# Altium footprint library libreriaPcb.PcbLib: 683 footprints (part 17 of 44)
Each footprint in its own frame and in the unit in brackets; x right, y up, seen from the top. Pads: shape width x height; smd on the part's side, far side on the other; paste and mask are expansions set on the pad; w line width, h text height; cw(c..) or ccw(c..) is an arc to the next point about the centre after c.
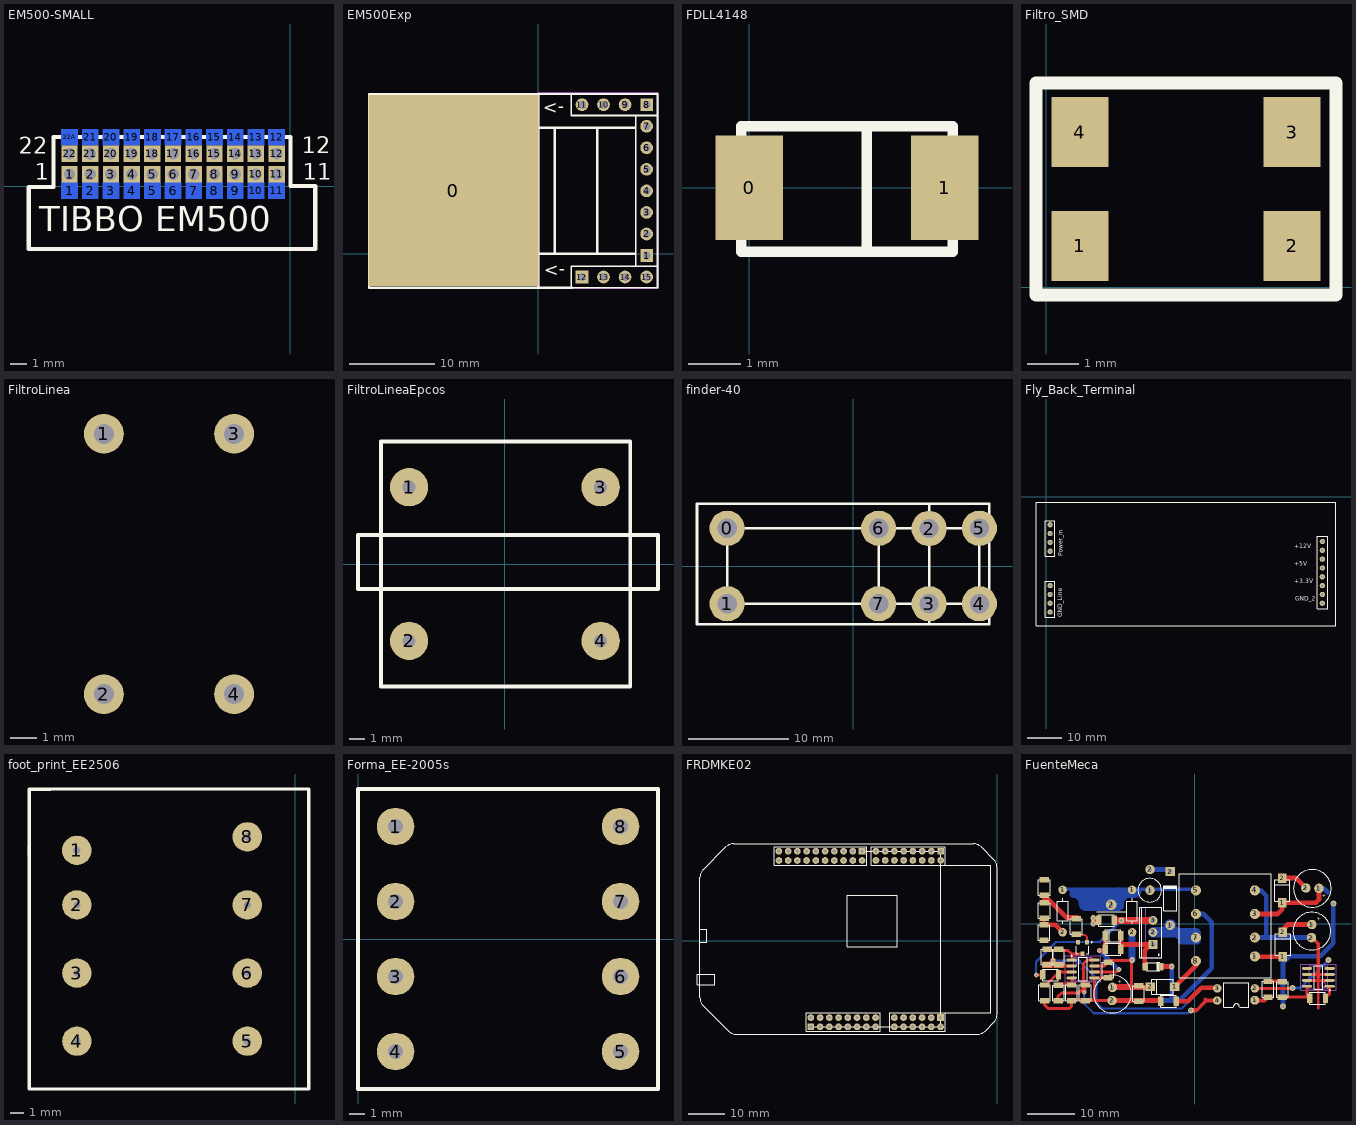
[diagram p16: the footprints below, top view; thin cyan lines are the x and y axes]

## EM500-SMALL [mm]
pads (44):
  rect 1x1 smd far side: 1(-13.55,-0.27) 2(-12.28,-0.27) 3(-11.01,-0.27) 4(-9.74,-0.27) 5(-8.47,-0.27) 6(-7.2,-0.27) 7(-5.93,-0.27) 8(-4.66,-0.27) 9(-3.39,-0.27) 10(-2.12,-0.27) 11(-0.85,-0.27) 12(-0.85,3) 13(-2.12,3) 14(-3.39,3) 15(-4.66,3) 16(-5.93,3) 17(-7.2,3) 18(-8.47,3) 19(-9.74,3) 20(-11.01,3) 21(-12.28,3) 22A(-13.55,3)
  rect 1x1 hole 0.7: 1(-13.55,0.73) 2(-12.28,0.73) 3(-11.01,0.73) 4(-9.74,0.73) 5(-8.47,0.73) 6(-7.2,0.73) 7(-5.93,0.73) 8(-4.66,0.73) 9(-3.39,0.73) 10(-2.12,0.73) 11(-0.85,0.73) 12(-0.85,2) 13(-2.12,2) 14(-3.39,2) 15(-4.66,2) 16(-5.93,2) 17(-7.2,2) 18(-8.47,2) 19(-9.74,2) 20(-11.01,2) 21(-12.28,2) 22(-13.55,2)
Top Overlay:
  lines w0.254: -16.049,-3.842 1.524,-3.842 1.524,0.005 0,0.005 0,3.016 -14.525,3.016 -14.525,-0.045 -16.049,-0.045 -16.049,-3.842
  text "TIBBO EM500" at -15.4,-2.77 h1.52
  text "11" at 0.75,0.405 h1
  text "12" at 0.7,2.03 h1
  text "22" at -16.65,1.98 h1
  text "1" at -15.675,0.405 h1
3D body: height 15, standoff 0, extent -15.975,-3.8 1.475,-0.1
3D body: height 8, standoff 0, extent -1.35,-0.1 -0.35,2.575
3D body: height 8, standoff 0, extent -2.623,-0.1 -1.623,2.575
3D body: height 8, standoff 0, extent -3.895,-0.1 -2.895,2.575
3D body: height 8, standoff 0, extent -5.168,-0.1 -4.168,2.575
3D body: height 8, standoff 0, extent -6.44,-0.1 -5.44,2.575
3D body: height 8, standoff 0, extent -8.985,-0.1 -7.985,2.575
3D body: height 8, standoff 0, extent -7.713,-0.1 -6.713,2.575
3D body: height 8, standoff 0, extent -14.075,-0.1 -13.075,2.575
3D body: height 8, standoff 0, extent -12.803,-0.1 -11.803,2.575
3D body: height 8, standoff 0, extent -11.53,-0.1 -10.53,2.575
3D body: height 8, standoff 0, extent -10.258,-0.1 -9.258,2.575

## EM500Exp [mm]
pads (16):
  rect 20x22.5 all layers, no hole: 0(-10,7.43)
  rect 1.5x1.5 hole 0.9: 1(12.776,-0.216) 8(12.776,17.564) 12(5.156,-2.756)
  round 1.5 hole 0.9: 2(12.776,2.324) 3(12.776,4.864) 4(12.776,7.404) 5(12.776,9.944) 6(12.776,12.484) 7(12.776,15.024) 9(10.236,17.564) 10(7.696,17.564) 11(5.156,17.564) 13(7.696,-2.756) 14(10.236,-2.756) 15(12.776,-2.756)
Top Layer:
  lines w0.254: 5.156,17.564 5.182,17.539 ; 7.696,17.564 8.077,17.183 ; 12.755,7.425 12.776,7.404
Top Overlay:
  lines w0.2: 14.046,-1.486 14.046,-4.026 3.886,-4.026 3.886,-1.486 14.046,-1.486 ; 14.046,-1.486 14.046,16.294 ; 14.046,-1.486 11.506,-1.486 11.506,16.294 14.046,16.294 ; 14.046,16.294 3.886,16.294 3.886,18.834 14.046,18.834 14.046,16.294
  lines w0.254: 0,14.821 0,0 ; 1.941,0 1.941,14.78 ; 3.886,18.834 0.009,18.834 ; 3.941,-4.026 0,-4.026 ; 4.77,14.846 11.481,14.846 ; 4.775,14.846 0.009,14.846 0.009,18.834 ; 6.951,0.014 6.951,14.81 7.011,14.81 ; 11.481,0 4.766,0 0,0 ; 0,-4.026 0,0 ; 0,-4.026 -19.97,-4.026 -19.97,18.834 0.009,18.834
  text "->" at 3.091,17.775 h1.52
  text "->" at 3.191,-1.35 h1.52
Mechanical 1:
  lines w0.254: 0.016,-4.05 0.016,18.925 14.116,18.925 14.116,-4.05 0.016,-4.05

## FDLL4148 [mm] "Chip Resistor; Body 3.2 x 1.6 mm (LxW typ)"
height 2.54
pads (2):
  rect 1.3x2 smd: 0(0,0) 1(3.75,0)
Top Overlay:
  lines w0.2: 2.25,-1.225 2.25,1.125 ; -0.15,-1.225 -0.15,1.175 3.9,1.175 3.9,-1.225 -0.15,-1.225
3D body: height 1, standoff 0, extent 0.025,-0.9 3.525,0.9

## Filtro_SMD [mm]
pads (4):
  rect 1.1x1.35 smd: 1(0.65,0.8) 2(4.75,0.8) 3(4.75,3) 4(0.65,3)
Top Overlay:
  lines w0.254: -0.2,-0.15 5.6,-0.15 5.6,3.95 -0.2,3.95 -0.2,-0.15
3D body: height 2.8, standoff 0.4, extent 0.1,0.1 5.3,3.7
3D body: height 0.4, standoff 0, extent 0.15,2.4 1.15,3.6
3D body: height 0.4, standoff 0, extent 4.25,2.4 5.25,3.6
3D body: height 0.4, standoff 0, extent 0.15,0.2 1.15,1.4
3D body: height 0.4, standoff 0, extent 4.25,0.2 5.25,1.4

## FiltroLinea [mil] "LFV129-102U"
pads (4):
  round 60 hole 30: 1(244.09,480.31) 2(244.09,86.61) 3(440.94,480.31) 4(440.94,86.61)
3D body: height 698.14, standoff 10.52, extent 2.04,-1.97 688.3,568.9
3D body: height 118.11, standoff 0, extent 232.38,74.83 255.91,98.41
3D body: height 118.11, standoff 0, extent 429.23,74.83 452.76,98.41
3D body: height 39.37, standoff 0, extent 429.23,468.53 452.76,492.11
3D body: height 118.11, standoff 0, extent 232.38,468.53 255.91,492.11

## FiltroLineaEpcos [mm]
pads (4):
  round 2.5 hole 0.85: 1(-6.245,5.01) 2(-6.245,-5.01) 3(6.245,5.01) 4(6.245,-5.01)
Top Overlay:
  lines w0.254: -9.575,-1.62 9.985,-1.62 9.985,1.89 -7.675,1.89 -9.575,1.89 -9.575,-1.62 ; -8.065,-7.99 8.175,-7.99 8.175,8 -8.065,8 -8.065,-7.99

## finder-40 [mm]
pads (8):
  round 3.5 hole 1.9: 0(-12.525,3.75) 1(-12.525,-3.75) 2(7.525,3.725) 3(7.525,-3.75) 4(12.525,-3.75) 5(12.525,3.75) 6(2.525,3.75) 7(2.525,-3.75)
Top Overlay:
  lines w0.254: 2.525,-3.75 2.525,3.75 ; 7.5,-5.8 7.525,-5.8 7.525,6.15 ; -15.525,-5.8 -15.525,6.2 13.525,6.2 13.525,-5.8 -15.525,-5.8 ; -12.525,-3.75 -12.525,3.75 12.525,3.75 12.525,-3.75 -12.525,-3.75
3D body: height 25, standoff 0, extent -15.554,-6.052 13.75,6.202

## Fly_Back_Terminal [mil]
pads (16):
  round 60 hole 30: 0(45,-315) 1(45,-415) 2(45,-515) 3(45,-615) 4(45,-1005) 5(45,-1105) 6(45,-1205) 7(45,-1305) 8(3130,-1205) 9(3130,-1105) 10(3130,-1005) 11(3130,-905) 12(3130,-805) 13(3130,-705) 14(3130,-605) 15(3130,-505)
Top Overlay:
  lines w10: 99,-1364 100,-1365 ; 3190,-1264.5 3190,-1265 ; 3190,-450.5 3190,-445 ; 100,-1365 -10,-1365 -10,-955 100,-955 100,-1365 ; 3190,-1265 3070,-1265 3070,-445 3190,-445 ; 3190,-1265 3190,-445 ; -115,-1460 -115,-60 3285,-60 3285,-1460 -115,-1460 ; -10,-670 -10,-270 100,-270 100,-670 -10,-670
  text "Power_in" at 186,-670.5 h50
  text "GND_Line" at 180.5,-1364 h50
  text "+12V" at 2813.5,-580 h50
  text "+5V" at 2813.5,-780 h50
  text "+3.3V" at 2813.5,-980 h50
  text "GND_2" at 2820.5,-1175 h50

## foot_print_EE2506 [mil]
pads (8):
  round 85 hole 21: 1(-630.31,2834.65) 2(-629.92,2677.16) 3(-629.92,2480.32) 4(-629.92,2283.86) 5(-138.19,2283.86) 6(-138.19,2480.32) 7(-138.19,2677.16) 8(-138.19,2873.62)
Top Layer:
  lines w10: -767.72,2824.65 -767.72,2844.65 ; -630.31,2824.65 -630.31,2844.65
Top Overlay:
  lines w10: -767.32,2146.06 -767.32,2657.09 -767.32,2780.71 -767.32,3011.42 -707.09,3011.42 39.37,3011.81 39.37,2775.59 39.37,2145.67 -767.32,2146.06

## Forma_EE-2005s [mm]
pads (8):
  round 2.5 hole 1: 1(2.5,7.5) 2(2.5,2.5) 3(2.5,-2.5) 4(2.5,-7.5) 5(17.5,-7.5) 6(17.5,-2.5) 7(17.5,2.5) 8(17.5,7.5)
Top Overlay:
  lines w0.254: 0,-10 20,-10 20,10 0,10 0,-10
3D body: height 10, standoff 1, extent -0.127,-10.127 20.127,10.127

## FRDMKE02 [mm]
pads (64):
  round 1.85 hole 0.9: 1(-51.206,-21.158) 3(-48.666,-21.158) 4(-48.666,-23.698) 5(-46.126,-21.158) 6(-46.126,-23.698) 7(-43.586,-21.158) 8(-43.586,-23.698) 9(-41.046,-21.158) 10(-41.046,-23.698) 11(-38.506,-21.158) 12(-38.506,-23.698) 13(-35.966,-21.158) 14(-35.966,-23.698) 15(-33.426,-21.158) 16(-33.426,-23.698) 17(-28.27,-21.158) 18(-28.27,-23.698) 19(-25.73,-21.158) 20(-25.73,-23.698) 21(-23.19,-21.158) 22(-23.19,-23.698) 23(-20.65,-21.158) 24(-20.65,-23.698) 25(-18.11,-21.158) 26(-18.11,-23.698) 28(-15.57,-23.698) 29(-59.995,24.562) 30(-59.995,22.022) 31(-57.455,24.562) 32(-57.455,22.022) 33(-54.915,24.562) 34(-54.915,22.022) 35(-52.375,24.562) 36(-52.375,22.022) 37(-49.835,24.562) 38(-49.835,22.022) 39(-47.295,24.562) 40(-47.295,22.022) 41(-44.755,24.562) 42(-44.755,22.022) 43(-42.215,24.562) 44(-42.215,22.022) 45(-39.675,24.562) 46(-39.675,22.022) 48(-37.135,22.022) 49(-33.325,24.587) 50(-33.325,22.047) 51(-30.785,24.587) 52(-30.785,22.047) 53(-28.245,24.587) 54(-28.245,22.047) 55(-25.705,24.587) 56(-25.705,22.047) 57(-23.165,24.587) 58(-23.165,22.047) 59(-20.625,24.587) 60(-20.625,22.047) 61(-18.085,24.587) 62(-18.085,22.047) 64(-15.545,22.047)
  rect 1.85x1.85 hole 0.9: 2(-51.206,-23.698) 27(-15.57,-21.158) 47(-37.135,24.562) 63(-15.545,24.587)
Top Overlay:
  lines w0.2: -61.265,20.752 -37.77,20.752 -35.865,20.752 -35.865,25.832 -37.77,25.832 -61.265,25.832 -61.265,20.752 ; -52.476,-24.968 -32.156,-24.968 -32.156,-19.888 -52.476,-19.888 -52.476,-24.968 ; -34.595,20.777 -34.595,25.857 -14.275,25.857 -14.275,20.777 -34.595,20.777 ; -29.54,-24.968 -14.3,-24.968 -14.3,-19.888 -29.54,-19.888 -29.54,-24.968
  lines w0.254: -80.992,-17.687 -73.821,-24.858 ccw(c-71.653,-22.69) -71.653,-25.756 -65.989,-25.756 -14.224,-25.756 -5.486,-25.756 ccw(c-5.486,-22.69) -3.318,-24.858 -0.949,-22.488 ccw(c-3.117,-20.32) -0.051,-20.32 -0.051,20.091 ccw(c-3.117,20.091) -0.949,22.259 -4.436,25.747 ccw(c-6.604,23.579) -6.604,26.645 -61.239,26.645 -72.39,26.645 ccw(c-72.39,23.579) -74.558,25.747 -80.788,19.516 ccw(c-78.62,17.348) -81.686,17.348 -81.686,0.229 -81.686,-10.058 -81.686,-15.723 ccw(c-78.62,-15.723) -80.788,-17.891 -80.594,-18.085 ; -51.206,-23.698 -15.57,-23.698 -15.57,24.562 -37.135,24.562 ; -28.727,12.522 -27.534,12.522 -27.534,-1.702 -41.173,-1.702 -41.173,12.522 -28.626,12.522 ; -14.3,-19.888 -1.727,-19.888 -1.727,20.777 -14.275,20.777 ; -82.499,-12.065 -77.572,-12.065 -77.572,-9.296 -82.499,-9.296 -82.499,-12.065 ; -81.686,-0.483 -81.686,3.073 -79.756,3.073 -79.756,-0.483 -81.686,-0.483
3D body: height 1, standoff 0, extent -41.173,-1.701 -27.534,12.522
3D body: height 3, standoff 0, extent -81.686,-0.483 -79.756,3.073
3D body: height 4, standoff 3, extent -81.255,-0.19 -80.137,2.477
3D body: height 3, standoff 0, extent -82.652,-12.243 -77.572,-9.449
3D body: height 0.25, standoff 0, extent -81.458,-25.889 -0.445,26.314

## FuenteMeca [mm]
pads (97):
  rect 2x1.15 smd: 1(-31.938,-0.22) 1(-31.918,1.159) 1(-31.904,9.266) 1(-31.825,-16.328) 1(-31.283,-8.747) 1(-28.89,-13.047) 1(-28.856,-5.466) 1(-26.11,-16.328) 1(-25.08,1.05) 1(-23.189,-16.328) 1(-18.363,-11.502) 1(-11.886,-16.455) 1(15.56,-12.285) 1(18.628,-15.605) 2(-31.938,-3.52) 2(-31.918,4.459) 2(-31.904,5.966) 2(-31.825,-13.028) 2(-31.283,-5.447) 2(-28.89,-16.347) 2(-28.856,-8.766) 2(-26.11,-13.028) 2(-25.08,-2.25) 2(-23.189,-13.028) 2(-18.363,-8.202) 2(-11.886,-13.155) 2(15.56,-15.585) 2(18.628,-12.305)
  rect 1.15x2 smd: 1(-28.871,-10.887) 1(-18.965,-2.595) 1(-17.06,0.67) 1(-15.663,-5.426) 1(-7.162,-16.485) 1(27.761,-15.85) 2(-32.171,-10.887) 2(-20.36,0.67) 2(-18.963,-5.426) 2(-15.665,-2.595) 2(-3.862,-16.485) 2(24.461,-15.85)
  round 1.8 hole 0.6: 1(-27.991,7.137) 1(-13.259,7.137) 2(-27.991,-1.863) 2(-13.259,-1.863)
  oval 2.2x0.6 smd: 1(-26.073,-7.722) 1(28.638,-13.31) 2(-26.073,-8.992) 2(28.638,-12.04) 3(-26.073,-10.262) 3(28.638,-10.77) 4(-26.073,-11.532) 4(28.638,-9.5) 5(-21.273,-11.532) 5(23.838,-9.5) 6(-21.273,-10.262) 6(23.838,-10.77) 7(-21.273,-8.992) 7(23.838,-12.04) 8(-21.273,-7.722) 8(23.838,-13.31)
  rect 0.9x0.95 smd: 1(-22.85,-3.932) 2(-24.75,-3.932) 3(-23.8,-6.432)
  round 2 hole 0.7: 1(-17.424,-13.538) 1(24.867,-0.203) 1(26.365,7.468) 2(-17.504,-16.308) 2(23.595,7.548) 2(24.787,-2.973)
  round 2 hole 0.85: 1(-9.449,7.061) 2(-9.449,11.481)
  rect 1.85x1.85 hole 1: 1(-8.814,-4.42)
  rect 1.15x1.6 smd: 1(-7.126,-9.119) 2(-10.501,-9.119)
  round 2 hole 1: 1(-5.181,-0.36)
  rect 2x1.8 smd: 1(-4.182,-13.437) 2(-9.382,-13.437)
  round 2.159 hole 0.533: 1(12.786,-6.959) 2(12.776,-2.959) 3(12.776,2.041) 4(12.776,7.031) 5(0.286,7.031) 6(0.286,2.041) 7(0.286,-2.959) 8(0.286,-7.949)
  oct 1.8x1.8 hole 0.635: 1(12.789,-16.292)
  rect 1.8x2 smd: 1(18.618,4.41) 1(18.745,-7.02) 2(18.618,9.61) 2(18.745,-1.82)
  round 2.25 hole 1: 2(-17.704,3.992)
  round 1.85 hole 1: 2(-8.814,-1.88) 3(-8.814,0.66)
  rect 2x2 hole 1: 2(-5.181,11.04)
  round 1.8 hole 0.635: 2(12.789,-13.742) 3(4.819,-13.752) 4(4.809,-16.322)
via -4.877,-9.119 diameter 1.2 hole 0.6
via -20.244,-5.69 diameter 1 hole 0.5
via 29.413,4.216 diameter 1.27 hole 0.711
via 18.745,-17.628 diameter 1.27 hole 0.711
via 20.777,-13.691 diameter 1.27 hole 0.711
via -23.419,-14.58 diameter 1 hole 0.5
via -0.813,-18.39 diameter 1.27 hole 0.711
via -15.545,0.66 diameter 1.27 hole 0.711
via -21.514,0.025 diameter 1.2 hole 0.6
via -21.514,1.168 diameter 1.2 hole 0.6
via -13.259,-7.722 diameter 1.2 hole 0.6
via -16.053,-9.754 diameter 1 hole 0.5
via 28.397,-7.722 diameter 1.27 hole 0.711
via -33.579,-10.897 diameter 1 hole 0.5
via -30.023,-7.849 diameter 1 hole 0.5
Top Layer:
  rectangle: -22.022,-0.356 -20.244,1.549
  region: -29.68,-7.399 -29.573,-7.506 -29.515,-7.646 -29.515,-7.722 -29.507,-7.796 -29.451,-7.933 -29.345,-8.038 -29.208,-8.095 -29.134,-8.103 -27.839,-8.103 -27.792,-8.122 -27.756,-8.158 -27.737,-8.204 -27.737,-9.246 -27.794,-9.354 -27.839,-9.373 -32.309,-9.373 -32.309,-8.23 -32.255,-8.123 -32.254,-8.122 -32.207,-8.103 -30.912,-8.103 -30.837,-8.095 -30.7,-8.038 -30.595,-7.933 -30.538,-7.796 -30.531,-7.722 -30.531,-7.646 -30.473,-7.506 -30.366,-7.399 -30.226,-7.341 -29.82,-7.341
  lines w0.4: -30.023,-8.766 -30.023,-7.849 ; -26.073,-6.465 -26.04,-6.432 ; -25.08,-2.25 ccw(c-24.942,-2.25) -24.942,-2.388 -23.292,-2.388 -22.85,-2.83 -22.85,-3.932
  lines w0.6: -33.579,-10.897 -32.171,-10.897 ; -31.918,0.397 -31.918,1.159 ; -31.825,-16.328 -31.825,-17.223 -31.039,-18.009 -26.594,-18.009 -26.11,-17.525 -26.11,-16.328 ; -31.825,-13.028 -31.519,-13.028 -28.753,-10.262 -26.073,-10.262 ; -31.791,-5.701 -26.837,-5.701 -26.073,-6.465 -26.073,-7.722 ; -31.283,-8.766 -30.023,-8.766 ; -29.11,-8.992 -26.073,-8.992 ; -29.017,-16.093 -29.017,-15.479 -28.245,-14.707 -24.562,-14.707 -23.546,-13.691 -23.546,-12.929 -23.546,-8.484 -22.784,-7.722 -21.273,-7.722 ; -29.017,-12.793 -26.129,-12.793 -26.11,-12.774 -26.073,-12.737 -26.073,-11.532 ; -26.11,-16.201 -21.611,-16.201 -21.273,-15.863 -21.273,-11.532 -18.647,-11.532 ; -26.04,-6.432 -23.8,-6.432 ; -23.189,-16.328 -17.497,-16.328 ; -21.273,-10.262 -16.561,-10.262 -16.053,-9.754 ; -21.273,-8.992 -19.101,-8.992 -18.311,-8.202 -18.363,-8.202 ; -18.057,-7.821 -13.259,-7.821 ; -17.424,-13.665 -17.297,-13.538 ; -16.914,-13.155 -13.386,-13.155 -13.386,-7.468 ; 12.789,-13.742 20.777,-13.742 ; 15.56,-12.285 15.751,-12.475 16.059,-12.167 18.109,-12.167 18.438,-12.495 ; 18.628,-15.605 24.46,-15.605 ; 20.726,-13.742 20.777,-13.691 ; 23.838,-13.31 23.838,-15.227 24.216,-15.605 24.461,-15.85 ; 23.838,-12.04 26.238,-12.04 ; 23.838,-10.77 26.238,-10.77 28.638,-10.77 ; 26.238,-17.882 26.238,-12.04 ; 26.238,-11.405 26.238,-12.04 ; 27.761,-15.85 28.638,-14.973 28.638,-13.31 ; 28.638,-12.04 26.238,-12.04
  lines w0.8: 0.203,-18.39 0.439,-18.39 2.234,-16.594 2.234,-16.104 2.352,-16.222 ; 2.352,-16.322 4.809,-16.322 ; 12.789,-16.292 14.853,-16.292 15.56,-15.585 ; 24.787,-2.973 24.919,-2.973 26.238,-4.293 26.238,-10.77 26.238,-11.405
  lines w1: -31.938,-0.22 -29.524,-0.22 -27.936,-1.808 ; -31.918,5.221 -31.155,5.221 -27.238,1.304 -24.816,1.304 ; -25.136,-2.306 -25.08,-2.25 ; -23.546,-12.929 -23.419,-13.056 -23.419,-14.58 ; -20.244,-5.69 -19.227,-5.69 -18.965,-5.428 ; -18.965,-2.595 -18.965,-5.428 ; -18.963,-5.426 -18.965,-5.428 ; -17.497,-16.328 -17.497,-16.316 -17.504,-16.308 -7.279,-16.308 -7.279,-16.485 ; -17.424,-13.538 -17.297,-13.538 -9.864,-13.538 -9.382,-13.056 ; -17.06,0.924 -16.796,0.66 ; -15.672,-5.181 -15.672,-3.23 ; -15.663,-4.42 -8.814,-4.42 -9.322,-4.42 -10.592,-5.69 -10.592,-8.193 -10.501,-8.284 -10.501,-9.119 ; -7.126,-9.119 -4.877,-9.119 ; -4.182,-13.437 0.286,-8.969 0.286,-7.949 ; -3.862,-16.485 -1.448,-16.485 1.412,-13.625 4.819,-13.625 ; -0.813,-18.39 0.203,-18.39 ; 12.776,2.041 17.586,2.041 18.618,3.073 18.618,4.41 ; 12.786,-6.959 12.847,-7.02 18.1,-7.02 ; 18.583,-1.337 19.717,-0.203 22.174,-0.203 24.867,-0.203 ; 18.618,9.61 18.932,9.61 18.999,9.677 21.465,9.677 23.595,7.548 ; 18.72,4.445 25.705,4.445 26.365,5.105 26.365,7.468 ; 24.332,-15.979 24.461,-15.85 ; -4.877,-9.119 -4.877,-9.119
  lines w1.5: -16.796,0.66 -8.814,0.66
Bottom Layer:
  region: -11.574,7.441 -11.431,7.298 -11.354,7.111 -11.354,7.01 -11.354,6.631 -11.403,6.386 -11.498,6.155 -11.637,5.947 -11.814,5.77 -12.022,5.631 -12.253,5.535 -12.499,5.486 -13.64,5.486 -13.777,5.48 -14.045,5.426 -14.298,5.321 -14.526,5.169 -14.72,4.976 -14.872,4.748 -14.977,4.495 -15.03,4.226 -15.037,4.089 -15.037,3.723 -15.081,3.502 -15.167,3.294 -15.292,3.107 -15.451,2.948 -15.638,2.822 -15.846,2.736 -16.067,2.692 -16.18,2.692 -23.188,2.692 -23.482,2.751 -23.76,2.866 -24.009,3.033 -24.222,3.245 -24.388,3.495 -24.503,3.772 -24.562,4.066 -24.562,4.216 -24.568,4.341 -24.616,4.585 -24.712,4.815 -24.85,5.022 -25.026,5.198 -25.233,5.336 -25.463,5.432 -25.707,5.48 -25.832,5.486 -25.958,5.486 -26.191,5.583 -26.37,5.762 -26.467,5.995 -26.467,6.121 -26.467,6.488 -26.423,6.709 -26.337,6.917 -26.212,7.104 -26.052,7.263 -25.865,7.388 -25.657,7.474 -25.436,7.518 -11.761,7.518
  region: -4.617,0.753 -4.456,0.686 -4.31,0.589 -4.186,0.465 -4.089,0.319 -4.022,0.158 -3.988,-0.014 -3.988,-0.102 -3.984,-0.189 -3.95,-0.36 -3.883,-0.521 -3.786,-0.666 -3.663,-0.789 -3.518,-0.886 -3.357,-0.952 -3.186,-0.986 -3.099,-0.991 0.316,-0.991 0.537,-1.035 0.745,-1.121 0.932,-1.246 1.091,-1.405 1.216,-1.592 1.302,-1.8 1.346,-2.021 1.346,-2.134 1.346,-3.531 1.346,-3.618 1.312,-3.79 1.245,-3.952 1.148,-4.097 1.024,-4.221 0.878,-4.318 0.717,-4.385 0.545,-4.42 -2.971,-4.42 -3.204,-4.323 -3.383,-4.144 -3.48,-3.911 -3.48,-3.785 -3.484,-3.697 -3.518,-3.527 -3.585,-3.366 -3.682,-3.221 -3.805,-3.097 -3.95,-3.001 -4.111,-2.934 -4.282,-2.9 -4.369,-2.896 -8.914,-2.896 -9.11,-2.857 -9.295,-2.78 -9.461,-2.669 -9.603,-2.527 -9.714,-2.361 -9.791,-2.176 -9.83,-1.98 -9.83,-1.88 -9.83,-1.753 -9.83,-1.653 -9.791,-1.456 -9.714,-1.271 -9.603,-1.105 -9.461,-0.963 -9.295,-0.852 -9.11,-0.776 -8.914,-0.737 -7.036,-0.737 -6.961,-0.733 -6.815,-0.704 -6.677,-0.647 -6.552,-0.564 -6.447,-0.458 -6.364,-0.334 -6.307,-0.196 -6.277,-0.049 -6.274,0.025 -6.274,0.1 -6.245,0.248 -6.187,0.386 -6.104,0.511 -5.998,0.617 -5.873,0.701 -5.734,0.758 -5.587,0.787 -4.789,0.787
  lines w0.5: -33.579,-10.897 -33.64,-10.836 -33.64,-8.164 -29.388,-3.912 -20.117,-3.912 ; -30.023,-7.849 -24.562,-7.849 -20.879,-11.532 -20.879,-16.739 -19.609,-18.009 -2.718,-18.009 1.539,-13.752 4.819,-13.752 ; -23.419,-14.58 -23.419,-16.993 -21.387,-19.025 -1.448,-19.025 -0.813,-18.39
  lines w0.6: -20.117,-3.912 -15.545,0.66 ; -16.18,-9.754 -16.053,-9.754 ; 20.777,-13.691 22.428,-13.691 28.397,-7.722
  lines w0.8: -28.499,7.294 -16.18,7.294 -0.485,7.294
  lines w1: -21.514,0.025 -21.514,1.168 ; -20.244,-5.69 -16.18,-9.754 ; -17.504,-16.308 -4.877,-16.308 ; -16.18,6.024 -16.18,7.294 ; -9.423,11.455 -5.596,11.455 -5.181,11.04 ; -8.814,-1.88 -3.661,-1.88 -5.181,-0.36 ; -4.877,-9.119 -4.877,-16.308 ; 0.286,2.041 1.87,2.041 3.632,0.279 3.632,-9.5 -3.176,-16.308 -4.877,-16.308 ; 12.776,-2.959 15.189,-2.959 ; 12.776,7.031 14.025,7.031 15.189,5.867 15.189,-2.959 ; 18.745,-17.628 18.745,-8.357 20.142,-6.96 26.619,-6.96 29.413,-4.166 29.413,4.216 ; 24.787,-2.973 24.772,-2.959 15.189,-2.959 ; 26.365,7.468 27.381,7.468 28.245,6.604 ; -16.18,7.294 -16.18,7.294
  lines w1.5: -13.259,-7.722 -13.259,-1.863
Top Overlay:
  drawing of 186 lines, arcs and shapes, not listed
  text "+" at 27.965,6.278 h0.75
  text "+" at 26.057,1.397 h0.75
  text "+" at -16.234,-11.938 h0.75
Mechanical 13:
  circle w0.1: c-24.723,-8.077 r0.5
  circle w0.1: c27.288,-12.955 r0.5
  lines w0.1: -10.364,-7.23 -10.364,3.47 ; -25.623,-12.077 -25.623,-7.177 -21.723,-7.177 -21.723,-12.077 -25.623,-12.077 ; -11.664,-7.23 -6.964,-7.23 -6.964,3.47 -11.664,3.47 -11.664,-7.23 ; 24.288,-13.855 24.288,-8.955 28.188,-8.955 28.188,-13.855 24.288,-13.855
Mechanical 15:
  lines w0.1: -24.173,-9.627 -23.173,-9.627 ; -23.673,-10.127 -23.673,-9.127 ; -9.314,-1.88 -8.314,-1.88 ; -8.814,-2.38 -8.814,-1.38 ; 25.738,-11.405 26.738,-11.405 ; 26.238,-11.905 26.238,-10.905 ; -27.423,-12.377 -27.423,-6.877 -19.923,-6.877 -19.923,-12.377 -27.423,-12.377 ; 22.488,-14.155 22.488,-8.655 29.988,-8.655 29.988,-14.155 22.488,-14.155
3D body: height 1.1, standoff 0, extent -7.939,-9.919 -7.564,-8.319
3D body: height 1, standoff 0, extent -10.126,-9.919 -7.526,-8.319
3D body: height 1, standoff 0, extent -7.526,-9.919 -7.226,-8.319
3D body: height 1, standoff 0, extent -10.426,-9.919 -10.126,-8.319
3D body: height 1, standoff 0, extent -19.143,-8.572 -17.543,-8.272
3D body: height 1, standoff 0, extent -19.143,-11.472 -17.543,-11.172
3D body: height 1, standoff 0, extent -19.143,-11.172 -17.543,-8.572
3D body: height 10, standoff 1, extent -3.351,-11.576 16.393,10.658
3D body: height 1, standoff 0, extent -34.569,-19.533 30.531,12.624
3D body: height 11, standoff 9, extent -24.525,4.005 -23.125,5.405
3D body: height 1, standoff 0, extent -31.831,-11.697 -29.231,-10.097
3D body: height 1, standoff 0, extent -29.231,-11.697 -28.931,-10.097
3D body: height 1, standoff 0, extent -32.131,-11.697 -31.831,-10.097
3D body: height 1, standoff 0, extent -29.68,-16.007 -28.08,-13.407
3D body: height 1, standoff 0, extent -29.68,-13.407 -28.08,-13.107
3D body: height 1, standoff 0, extent -29.68,-16.307 -28.08,-16.007
3D body: height 1, standoff 0, extent -20.32,-0.14 -20.02,1.46
3D body: height 1, standoff 0, extent -17.42,-0.14 -17.12,1.46
3D body: height 1, standoff 0, extent -20.02,-0.14 -17.42,1.46
3D body: height 1, standoff 0, extent -32.093,-8.387 -30.493,-5.787
3D body: height 1, standoff 0, extent -32.093,-8.687 -30.493,-8.387
3D body: height 1, standoff 0, extent -32.093,-5.787 -30.493,-5.487
3D body: height 1, standoff 0, extent 17.818,-12.645 19.418,-12.345
3D body: height 1, standoff 0, extent 17.818,-15.545 19.418,-15.245
3D body: height 1, standoff 0, extent 17.818,-15.245 19.418,-12.645
3D body: height 1, standoff 0, extent 14.77,-15.545 16.37,-15.245
3D body: height 1, standoff 0, extent 14.77,-12.645 16.37,-12.345
3D body: height 1, standoff 0, extent 14.77,-15.245 16.37,-12.645
3D body: height 15, standoff 0, extent -11.949,4.566 -6.969,9.556
3D body: height 18, standoff 0, extent -9.849,11.081 -9.052,11.88
3D body: height 17.9, standoff 17.1, extent -9.9,6.909 -9.103,11.909
3D body: height 7.4, standoff 6, extent -9.849,6.661 -9.049,7.461
3D body: height 1, standoff 0, extent -18.923,-6.236 -18.623,-4.636
3D body: height 1, standoff 0, extent -16.023,-6.236 -15.723,-4.636
3D body: height 1, standoff 0, extent -18.623,-6.236 -16.023,-4.636
3D body: height -1, standoff -3, extent -14.461,0.157 -12.461,5.157
3D body: height 1, standoff 0, extent -25.87,-2.21 -24.27,-1.91
3D body: height 1, standoff 0, extent -25.87,0.69 -24.27,0.99
3D body: height 1, standoff 0, extent -25.87,-1.91 -24.27,0.69
3D body: height 1, standoff 0, extent -32.728,4.119 -31.128,4.419
3D body: height 1, standoff 0, extent -32.728,1.219 -31.128,1.519
3D body: height 1, standoff 0, extent -32.728,1.519 -31.128,4.119
3D body: height 1, standoff 0, extent -32.728,-3.48 -31.128,-3.18
3D body: height 1, standoff 0, extent -32.728,-0.58 -31.128,-0.28
3D body: height 1, standoff 0, extent -32.728,-3.18 -31.128,-0.58
3D body: height -1.01, standoff -3, extent -29.191,0.157 -27.195,5.157
3D body: height 3, standoff 0, extent 6.032,-17.829 11.566,-12.442
3D body: height 2, standoff 0, extent 17.068,4.605 20.168,9.405
3D body: height 2, standoff 0, extent 17.195,-6.825 20.295,-2.025
3D body: height 2, standoff 0, extent -9.177,-14.987 -4.377,-11.887
3D body: height 1, standoff 0, extent -16.005,-3.384 -15.705,-1.785
3D body: height 1, standoff 0, extent -18.905,-3.384 -18.605,-1.785
3D body: height 1, standoff 0, extent -18.605,-3.384 -16.005,-1.785
3D body: height 3.25, standoff 0.75, extent -6.381,2.849 -3.881,7.849
3D body: height 3.4, standoff 0.6, extent -6.531,6.35 -3.731,7.35
3D body: height 2.3, standoff 1.7, extent -5.478,-0.459 -4.88,11.041
3D body: height 2, standoff 0, extent -5.48,10.741 -4.88,11.341
3D body: height 2, standoff 0, extent -5.48,-0.659 -4.88,-0.059
3D body: height 1, standoff 0, extent -23.969,-13.398 -22.369,-13.098
3D body: height 1, standoff 0, extent -23.969,-16.298 -22.369,-15.998
3D body: height 1, standoff 0, extent -23.969,-15.998 -22.369,-13.398
3D body: height 1, standoff 0, extent -32.605,-13.398 -31.005,-13.098
3D body: height 1, standoff 0, extent -32.605,-16.298 -31.005,-15.998
3D body: height 1, standoff 0, extent -32.605,-15.998 -31.005,-13.398
3D body: height 1, standoff 0, extent -26.89,-13.398 -25.29,-13.098
3D body: height 1, standoff 0, extent -26.89,-16.298 -25.29,-15.998
3D body: height 1, standoff 0, extent -26.89,-15.998 -25.29,-13.398
3D body: height 1, standoff 0, extent -29.676,-8.696 -28.076,-8.396
3D body: height 1, standoff 0, extent -29.676,-5.796 -28.076,-5.496
3D body: height 1, standoff 0, extent -29.676,-8.396 -28.076,-5.796
3D body: height 1, standoff 0, extent -6.832,-17.304 -4.232,-15.705
3D body: height 1, standoff 0, extent -7.132,-17.304 -6.832,-15.705
3D body: height 1, standoff 0, extent -4.232,-17.304 -3.932,-15.705
3D body: height 1, standoff 0, extent 24.831,-16.63 27.431,-15.03
3D body: height 1, standoff 0, extent 27.431,-16.63 27.731,-15.03
3D body: height 1, standoff 0, extent 24.531,-16.63 24.831,-15.03
3D body: height 11.8, standoff 0, extent 20.79,6.858 20.993,8.052
3D body: height 12, standoff 0, extent 21.065,3.575 28.834,11.36
3D body: height 11.8, standoff 0, extent 20.965,3.475 28.934,11.46
3D body: height 11.8, standoff 0, extent 24.282,-5.779 25.476,-5.575
3D body: height 12, standoff 0, extent 20.974,-5.503 28.759,2.266
3D body: height 11.8, standoff 0, extent 20.875,-5.603 28.859,2.365
3D body: height 1, standoff 0, extent -32.724,6.036 -31.124,6.336
3D body: height 1, standoff 0, extent -32.724,8.936 -31.124,9.236
3D body: height 1, standoff 0, extent -32.724,6.336 -31.124,8.936
3D body: height 1, standoff 0, extent -12.666,-13.525 -11.066,-13.225
3D body: height 1, standoff 0, extent -12.666,-16.425 -11.066,-16.125
3D body: height 1, standoff 0, extent -12.666,-16.125 -11.066,-13.525
3D body: height 11.8, standoff 0, extent -18.009,-19.113 -16.815,-18.91
3D body: height 12, standoff 0, extent -21.317,-18.838 -13.532,-11.069
3D body: height 11.8, standoff 0, extent -21.416,-18.938 -13.432,-10.97
3D body: height 1.75, standoff 0, extent -25.623,-12.077 -21.723,-7.177
3D body: height 1.75, standoff 0, extent 24.288,-13.855 28.188,-8.955
3D body: height 19.3, standoff 12.9, extent -11.663,-7.229 -10.364,3.47
3D body: height 12.9, standoff 4, extent -11.714,-7.28 -6.914,3.52